# EAGLE library part LMZ10503TZE-ADJ/NOPB (library PTN78000WAH)
BUCK, 5.5VIN, 3A, 1MHZ, ADJ, 7TOPMOD
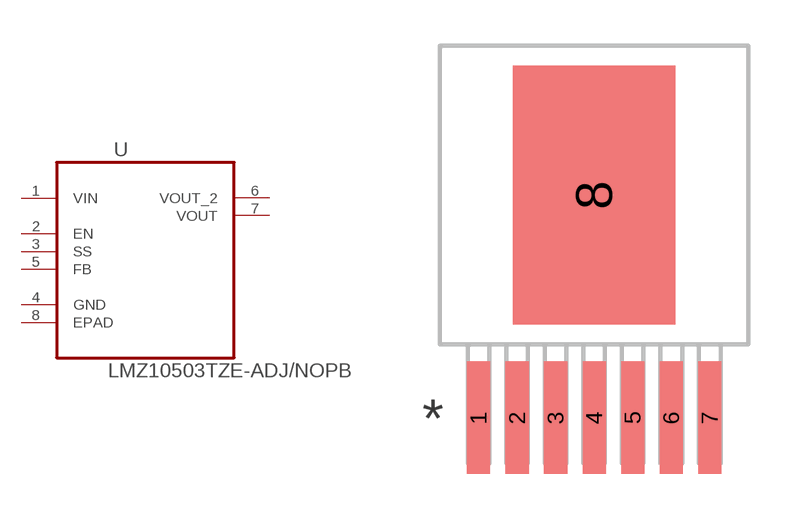
[diagram p1: symbol with the pads of TI_TO-PMOD-7; footprint TI_TO-PMOD-7]

Designator prefix U

## LMZ10503TZE-ADJ/NOPB (MPN: LMZ10503TZE-ADJ/NOPB; OC_FARNELL: 2102677; OC_NEWARK: 74R8004; PACKAGE: TO-PMOD-7; SUPPLIER: TEXAS INSTRUMENTS)  [TI_TO-PMOD-7]
1  VIN  pwr
2  EN  in
3  SS  in
4  GND  pas
5  FB  in
6  VOUT_2  out
7  VOUT  out
8  EPAD  pas

## Footprint TI_TO-PMOD-7 (pad centres in mm)
smd 0.762 x 3.708: 1 -3.81,-7.341; 2 -2.54,-7.341; 3 -1.27,-7.341; 4 0,-7.341; 5 1.27,-7.341; 6 2.54,-7.341; 7 3.81,-7.341
smd 5.35 x 8.54: 8 0,0